# Altium schematic symbol library LMK1C1104DQFR.SchLib: 1 symbol
Pins are listed as number, name and electrical type; pins without a type are passive.

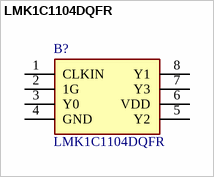
[diagram p0: symbol LMK1C1104DQFR]

## LMK1C1104DQFR
designator B?
Clock Buffer 4-channel output LVC MOS 1.8-V buffer; Manufacturer_Name: Texas Instruments; Geometry.Height: 0.8mm; Manufacturer_Part_Number: LMK1C1104DQFR; Mouser Part Number: 595-LMK1C1104DQFR; Mouser Price/Stock: https://www.mouser.co.uk/ProductDetail/Texas-Instruments/LMK1C1104DQFR?qs=QNEnbhJQKvYdwt0bSAj%252Blw%3D%3D; Arrow Part Number: LMK1C1104DQFR; Arrow Price/Stock: https://www.arrow.com/en/products/lmk1c1104dqfr/texas-instruments?utm_currency=USD&region=nac; Datasheet Link: https://www.ti.com/lit/ds/symlink/lmk1c1104.pdf?ts=1625794058723&ref_url=https%253A%252F%252Fwww.ti.com%252Fproduct%252FLMK1C1104
footprint SON50P200X200X80-8N
pins: 1 CLKIN, 2 1G, 3 Y0, 4 GND, 5 Y2, 6 VDD, 7 Y3, 8 Y1